# Altium footprint library chinook_lib_footprint_rotor.PcbLib: 25 footprints (part 1 of 2)
Each footprint in its own frame and in the unit in brackets; x right, y up, seen from the top. Pads: shape width x height; smd on the part's side, far side on the other; paste and mask are expansions set on the pad; w line width, h text height; cw(c..) or ccw(c..) is an arc to the next point about the centre after c.
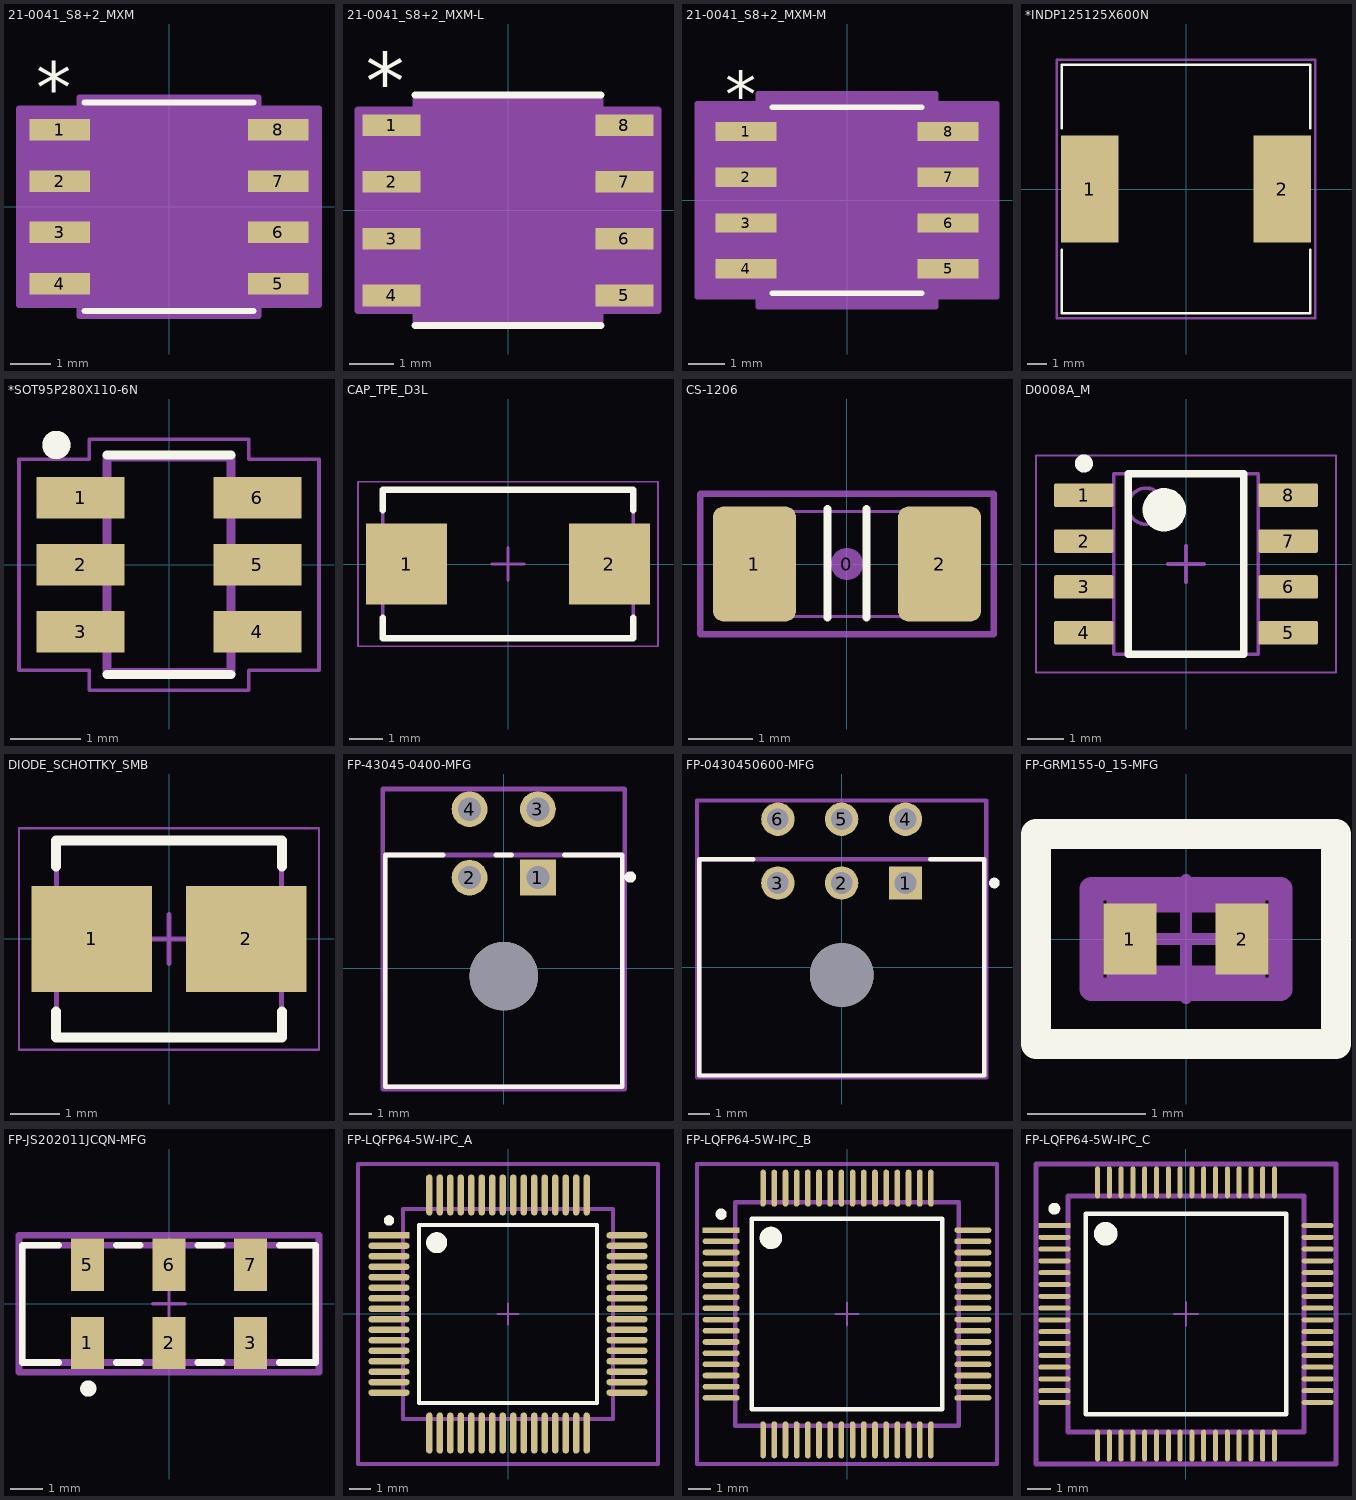
[diagram p0: the footprints below, top view; thin cyan lines are the x and y axes]

## 21-0041_S8+2_MXM [mil]
pads (8):
  rect 59.05x21 smd paste+0 mask+0: 1(-106.52,75) 2(-106.52,25) 3(-106.52,-25) 4(-106.52,-75) 5(106.52,-75) 6(106.52,-25) 7(106.52,25) 8(106.52,75)
Top Overlay:
  lines w6: -82,-101.5 82,-101.5 ; -82,101.5 82,101.5
  text "*" at -129.02,91 h50
Mechanical 13:
  lines w0: -12,96.5 ccw(c0,96.5) 12,96.5
  lines w1: -122.05,-84.5 -122.05,-65.5 -77,-65.5 -77,-84.5 -122.05,-84.5 ; -122.05,-34.5 -122.05,-15.5 -77,-15.5 -77,-34.5 -122.05,-34.5 ; -122.05,15.5 -122.05,34.5 -77,34.5 -77,15.5 -122.05,15.5 ; -122.05,65.5 -122.05,84.5 -77,84.5 -77,65.5 -122.05,65.5 ; -77,-96.5 77,-96.5 77,96.5 -77,96.5 -77,-96.5 ; 77,-84.5 77,-65.5 122.05,-65.5 122.05,-84.5 77,-84.5 ; 77,-34.5 77,-15.5 122.05,-15.5 122.05,-34.5 77,-34.5 ; 77,15.5 77,34.5 122.05,34.5 122.05,15.5 77,15.5 ; 77,65.5 77,84.5 122.05,84.5 122.05,65.5 77,65.5
  text "*" at -74.5,43.5 h50
Mechanical 15:
  region: -87,-95.5 -146.05,-95.5 -146.05,95.5 -87,95.5 -87,106.5 87,106.5 87,95.5 146.05,95.5 146.05,-95.5 87,-95.5 87,-106.5 -87,-106.5
  lines w6: -146.05,-95.5 -146.05,95.5 -87,95.5 -87,106.5 87,106.5 87,95.5 146.05,95.5 146.05,-95.5 87,-95.5 87,-106.5 -87,-106.5 -87,-95.5 -146.05,-95.5
3D body "21-0041_S8+2_MXM.step": height 69.09, standoff 0, extent -122.05,-96.5 122.05,96.5

## 21-0041_S8+2_MXM-L [mil]
pads (8):
  rect 51.05x19 smd paste+0 mask+0: 1(-102.52,75) 2(-102.52,25) 3(-102.52,-25) 4(-102.52,-75) 5(102.52,-75) 6(102.52,-25) 7(102.52,25) 8(102.52,75)
Top Overlay:
  lines w6: -82,-101.5 82,-101.5 ; -82,101.5 82,101.5
  text "*" at -125.02,89 h50
Mechanical 13:
  lines w0: -12,96.5 ccw(c0,96.5) 12,96.5
  lines w1: -122.05,-84.5 -122.05,-65.5 -77,-65.5 -77,-84.5 -122.05,-84.5 ; -122.05,-34.5 -122.05,-15.5 -77,-15.5 -77,-34.5 -122.05,-34.5 ; -122.05,15.5 -122.05,34.5 -77,34.5 -77,15.5 -122.05,15.5 ; -122.05,65.5 -122.05,84.5 -77,84.5 -77,65.5 -122.05,65.5 ; -77,-96.5 77,-96.5 77,96.5 -77,96.5 -77,-96.5 ; 77,-84.5 77,-65.5 122.05,-65.5 122.05,-84.5 77,-84.5 ; 77,-34.5 77,-15.5 122.05,-15.5 122.05,-34.5 77,-34.5 ; 77,15.5 77,34.5 122.05,34.5 122.05,15.5 77,15.5 ; 77,65.5 77,84.5 122.05,84.5 122.05,65.5 77,65.5
  text "*" at -74.5,43.5 h50
Mechanical 15:
  region: -81,-88.5 -132.05,-88.5 -132.05,88.5 -81,88.5 -81,100.5 81,100.5 81,88.5 132.05,88.5 132.05,-88.5 81,-88.5 81,-100.5 -81,-100.5
  lines w6: -132.05,-88.5 -132.05,88.5 -81,88.5 -81,100.5 81,100.5 81,88.5 132.05,88.5 132.05,-88.5 81,-88.5 81,-100.5 -81,-100.5 -81,-88.5 -132.05,-88.5
3D body "21-0041_S8+2_MXM.step": height 69.09, standoff 0, extent -122.05,-96.5 122.05,96.5

## 21-0041_S8+2_MXM-M [mil]
pads (8):
  rect 67.05x21 smd paste+0 mask+0: 1(-110.52,75) 2(-110.52,25) 3(-110.52,-25) 4(-110.52,-75) 5(110.52,-75) 6(110.52,-25) 7(110.52,25) 8(110.52,75)
Top Overlay:
  lines w6: -82,-101.5 82,-101.5 ; -82,101.5 82,101.5
  text "*" at -133.02,91 h50
Mechanical 13:
  lines w0: -12,96.5 ccw(c0,96.5) 12,96.5
  lines w1: -122.05,-84.5 -77,-84.5 -77,-65.5 -122.05,-65.5 -122.05,-84.5 ; -122.05,-34.5 -77,-34.5 -77,-15.5 -122.05,-15.5 -122.05,-34.5 ; -122.05,15.5 -77,15.5 -77,34.5 -122.05,34.5 -122.05,15.5 ; -122.05,65.5 -77,65.5 -77,84.5 -122.05,84.5 -122.05,65.5 ; -77,-96.5 -77,96.5 77,96.5 77,-96.5 -77,-96.5 ; 77,-84.5 122.05,-84.5 122.05,-65.5 77,-65.5 77,-84.5 ; 77,-34.5 122.05,-34.5 122.05,-15.5 77,-15.5 77,-34.5 ; 77,15.5 122.05,15.5 122.05,34.5 77,34.5 77,15.5 ; 77,65.5 122.05,65.5 122.05,84.5 77,84.5 77,65.5
  text "*" at -74.5,43.5 h50
Mechanical 15:
  region: -97,-105.5 -164.05,-105.5 -164.05,105.5 -97,105.5 -97,116.5 97,116.5 97,105.5 164.05,105.5 164.05,-105.5 97,-105.5 97,-116.5 -97,-116.5
  lines w6: -164.05,-105.5 -97,-105.5 -97,-116.5 97,-116.5 97,-105.5 164.05,-105.5 164.05,105.5 97,105.5 97,116.5 -97,116.5 -97,105.5 -164.05,105.5 -164.05,-105.5
3D body "21-0041_S8+2_MXM.step": height 69.09, standoff 0, extent -122.05,-96.5 122.05,96.5

## *INDP125125X600N [mm]
pads (2):
  rect 2.9x5.4 smd: 1(-4.85,0) 2(4.85,0)
Top Overlay:
  lines w0.127: -6.25,-3.05 -6.25,-6.25 6.25,-6.25 6.25,-3.05 ; -6.25,3.05 -6.25,6.25 6.25,6.25 6.25,3.05
Top Component Center:
  lines w0.127: -6.5,-6.5 -6.5,6.5 6.5,6.5 6.5,-6.5 -6.5,-6.5

## *SOT95P280X110-6N [mm]
pads (6):
  rect 1.25x0.59 smd: 1(-1.255,0.95) 2(-1.255,0) 3(-1.255,-0.95) 4(1.255,-0.95) 5(1.255,0) 6(1.255,0.95)
Top Overlay:
  circle w0.2: c-1.6,1.7 r0.1
  lines w0.127: -0.88,-1.559 0.88,-1.559 ; -0.88,1.559 0.88,1.559
Board:
  circle w0.2: c-1.6,1.7 r0.1
  circle w0.2: c-1.6,1.7 r0.1
  lines w0.127: -0.88,-1.53 0.88,-1.53 ; -0.88,-1.53 -0.88,1.53 ; -0.88,-1.53 0.88,-1.53 ; -0.88,-1.53 -0.88,1.53 ; -0.88,1.53 0.88,1.53 ; -0.88,1.53 0.88,1.53 ; 0.88,-1.53 0.88,1.53 ; 0.88,-1.53 0.88,1.53
Top Component Center:
  lines w0.05: -2.13,-1.5 -1.13,-1.5 -1.13,-1.78 1.13,-1.78 1.13,-1.5 2.13,-1.5 2.13,1.5 1.13,1.5 1.13,1.78 -1.13,1.78 -1.13,1.5 -2.13,1.5 -2.13,-1.5

## CAP_TPE_D3L [mm] "Molded Capacitor, 2-Leads, Body 7.30x4.30mm, IPC Medium Density"
height 2.5
pads (2):
  rect 2.45x2.45 smd: 1(-3.075,0) 2(3.075,0)
Top Overlay:
  lines w0.2: -3.8,-1.625 -3.8,-2.25 3.8,-2.25 3.8,-1.625 ; -3.8,1.625 -3.8,2.25 3.8,2.25 3.8,1.625
Mechanical 13:
  lines w0.1: -3.8,-2.25 -3.8,2.25 3.8,2.25 3.8,-2.25 -3.8,-2.25
Mechanical 15:
  lines w0.05: -4.55,-2.5 -4.55,2.5 4.55,2.5 4.55,-2.5 -4.55,-2.5
  lines w0.1: -0.5,0 0.5,0 ; 0,-0.5 0,0.5
3D body "CAPM7343X25N.step": height 2.5, standoff 0, extent -4.02,-2.25 4.02,2.25

## CS-1206 [mm]
pads (3):
  round 0.508 on Mech15: 0(0,0)
  rrect25% 1.3x1.8 smd: 1(-1.45,0) 2(1.45,0)
Top Overlay:
  lines w0.127: -0.307,-0.838 -0.307,0.864 ; 0.303,-0.838 0.303,0.864
Mechanical 13:
  lines w0.05: 1.025,-0.824 -1.025,-0.824 1.025,-0.824 ; -1.625,-0.825 -1.025,-0.825 -1.025,0.825 -1.625,0.825 -1.625,-0.825 ; -1.025,0.824 1.025,0.824 -1.025,0.824 ; 1.025,-0.825 1.025,0.825 1.625,0.825 1.625,-0.825 1.025,-0.825
Mechanical 15:
  lines w0.1: -2.3,-1.1 -2.3,1.1 2.3,1.1 2.3,-1.1 -2.3,-1.1
3D body "CS       - 1206.STEP": height 1, standoff 0, extent -1.577,-0.8 1.623,0.8

## D0008A_M [mm] "SOIC, 8-Leads, Body 5x4mm, Pitch 1.27mm, IPC Low Density"
height 1.75
pads (8):
  rrect15% 1.65x0.65 smd: 1(-2.825,1.905) 2(-2.825,0.635) 3(-2.825,-0.635) 4(-2.825,-1.905) 5(2.825,-1.905) 6(2.825,-0.635) 7(2.825,0.635) 8(2.825,1.905)
Top Overlay:
  circle w0.25: c-2.825,2.78 r0.125
  circle w0.6: c-0.6,1.5 r0.3
  lines w0.2: -1.6,-2.5 -1.6,2.5 1.6,2.5 1.6,-2.5 -1.6,-2.5
Mechanical 1:
  text ".Designator" at -1.397,-0.254 h0.6
Mechanical 13:
  circle w0.1: c-1.1,1.6 r0.5
  lines w0.1: -2,-2.5 -2,2.5 2,2.5 2,-2.5 -2,-2.5
Mechanical 15:
  lines w0.05: -4.15,-3 -4.15,3 4.15,3 4.15,-3 -4.15,-3
  lines w0.1: -0.5,0 0.5,0 ; 0,-0.5 0,0.5
3D body "SOIC-8akaD0008AakaM08A.stp": height 1.63, standoff 0, extent -3,-2.45 3,2.45

## DIODE_SCHOTTKY_SMB [mm] "Molded Capacitor, 2-Leads, Body 4.31x3.62mm, IPC Medium Density"
height 2.5
pads (2):
  rect 2.45x2.15 smd: 1(-1.575,0) 2(1.575,0)
Top Overlay:
  lines w0.2: -2.3,-1.475 -2.3,-2 2.3,-2 2.3,-1.475 ; -2.3,1.475 -2.3,2 2.3,2 2.3,1.475
Mechanical 13:
  lines w0.1: -2.285,-1.97 -2.285,1.97 2.285,1.97 2.285,-1.97 -2.285,-1.97
Mechanical 15:
  lines w0.05: -3.05,-2.25 -3.05,2.25 3.05,2.25 3.05,-2.25 -3.05,-2.25
  lines w0.1: -0.5,0 0.5,0 ; 0,-0.5 0,0.5
3D body "CAPM4336X25N.step": height 2.5, standoff 0, extent -2.505,-1.97 2.505,1.97

## FP-43045-0400-MFG [mm]
pads (5):
  rect 1.57x1.57 hole 1.02 paste-2539.97 mask+0: 1(1.5,3.965)
  round 1.57 hole 1.02 paste-2539.97 mask+0: 2(-1.5,3.965) 3(1.5,6.965) 4(-1.5,6.965)
  round 3 hole 3 unplated paste-2539.97 mask+0: ""(0,-0.355)
Top Overlay:
  circle w0.25: c5.55,3.99 r0.125
  lines w0.2: -2.66,4.955 -5.2,4.955 -5.2,-5.205 5.2,-5.205 5.2,4.955 2.66,4.955 ; -0.34,4.955 0.34,4.955
Top 3D Body:
  lines w0.2: -5.2,-5.205 -5.2,4.955 5.2,4.955 5.2,-5.205 -5.2,-5.205
Top Courtyard:
  lines w0.2: -5.3,-5.305 -5.3,7.85 5.3,7.85 5.3,-5.305 -5.3,-5.305
Top Assembly:
  lines w0.2: -5.3,-5.305 -5.3,7.85 5.3,7.85 5.3,-5.305 -5.3,-5.305
  text ".Designator" at 0,1.272 h1
Top Component Center:
  lines w0.1: -0.5,0 0.5,0 ; 0,-0.5 0,0.5
3D body "Conn_Molex_43045-0400_eec.STEP": height 0.25, standoff 0, extent -5.3,-5.305 5.3,7.85

## FP-0430450600-MFG [mm]
pads (7):
  rect 1.57x1.57 hole 1.02 paste-2539.97 mask+0: 1(3,3.965)
  round 1.57 hole 1.02 paste-2539.97 mask+0: 2(0,3.965) 3(-3,3.965) 4(3,6.965) 5(0,6.965) 6(-3,6.965)
  round 3 hole 3 unplated paste-2539.97 mask+0: ""(0,-0.355)
Top Overlay:
  circle w0.25: c7.175,3.965 r0.125
  lines w0.2: -4.16,5.08 -6.7,5.08 -6.7,-5.08 6.7,-5.08 6.7,5.08 4.16,5.08
Top 3D Body:
  lines w0.2: -6.7,-5.08 6.7,-5.08 6.7,5.08 -6.7,5.08 -6.7,-5.08
Top Courtyard:
  lines w0.2: -6.8,-5.18 6.8,-5.18 6.8,7.85 -6.8,7.85 -6.8,-5.18
Top Assembly:
  lines w0.2: -6.8,-5.18 6.8,-5.18 6.8,7.85 -6.8,7.85 -6.8,-5.18
  text ".Designator" at 0,1.522 h1
Top Component Center:
  lines w0.1: -0.5,0 0.5,0 ; 0,-0.5 0,0.5
3D body "Conn_Molex_0430450600_eec.STEP": height 0.25, standoff 0, extent -6.8,-5.18 6.8,7.85

## FP-GRM155-0_15-MFG [mm]
pads (2):
  rect 0.45x0.6 smd paste+0 mask+0: 1(-0.475,0) 2(0.475,0)
Top Overlay:
  lines w0.254: -1.27,-0.889 -1.27,0.889 0,0.889 1.27,0.889 1.27,-0.889 -1.27,-0.889
Top 3D Body:
  lines w0.2: -0.575,-0.325 -0.575,0.325 0.575,0.325 0.575,-0.325 -0.575,-0.325
Top Courtyard:
  lines w0.2: -0.8,-0.425 -0.8,0.425 0.8,0.425 0.8,-0.425 -0.8,-0.425
Top Assembly:
  lines w0.2: -0.8,-0.425 -0.8,0.425 0.8,0.425 0.8,-0.425 -0.8,-0.425
  text ".Designator" at 0,0.187 h1
Top Component Center:
  lines w0.1: -0.5,0 0.5,0 ; 0,-0.5 0,0.5
3D body "Cap_Murata_GRM155R61A475MEAAD_eec.STEP": height 0.25, standoff 0, extent -0.8,-0.425 0.8,0.425

## FP-JS202011JCQN-MFG [mm]
pads (6):
  rect 1x1.6 smd paste+0 mask+0: 1(-2.5,-1.2) 2(0,-1.2) 3(2.5,-1.2) 5(-2.5,1.2) 6(0,1.2) 7(2.5,1.2)
Top Overlay:
  circle w0.25: c-2.475,-2.6 r0.125
  lines w0.2: -3.375,-1.8 -4.5,-1.8 -4.5,1.8 -3.375,1.8 ; -1.625,-1.8 -0.875,-1.8 ; -1.625,1.8 -0.875,1.8 ; 0.875,-1.8 1.625,-1.8 ; 0.875,1.8 1.625,1.8 ; 3.375,-1.8 4.5,-1.8 4.5,1.8 3.375,1.8
Top 3D Body:
  lines w0.2: -4.5,-1.8 -4.5,1.8 4.5,1.8 4.5,-1.8 -4.5,-1.8
Top Courtyard:
  lines w0.2: -4.6,-2.1 -4.6,2.1 4.6,2.1 4.6,-2.1 -4.6,-2.1
Top Assembly:
  lines w0.2: -4.6,-2.1 -4.6,2.1 4.6,2.1 4.6,-2.1 -4.6,-2.1
  text ".Designator" at 0,0.187 h1
Top Component Center:
  lines w0.1: -0.5,0 0.5,0 ; 0,-0.5 0,0.5
3D body "Switch_C&K_Components_JS202011JCQN_eec.STEP": height 0.25, standoff 0, extent -4.6,-2.1 4.6,2.1

## FP-LQFP64-5W-IPC_A [mm]
pads (64):
  rect 1.955x0.312 smd paste+0 mask+0: 1(-5.675,3.75)
  rrect100% 1.955x0.312 smd paste+0 mask+0: 2(-5.675,3.25) 3(-5.675,2.75) 4(-5.675,2.25) 5(-5.675,1.75) 6(-5.675,1.25) 7(-5.675,0.75) 8(-5.675,0.25) 9(-5.675,-0.25) 10(-5.675,-0.75) 11(-5.675,-1.25) 12(-5.675,-1.75) 13(-5.675,-2.25) 14(-5.675,-2.75) 15(-5.675,-3.25) 16(-5.675,-3.75) 33(5.675,-3.75) 34(5.675,-3.25) 35(5.675,-2.75) 36(5.675,-2.25) 37(5.675,-1.75) 38(5.675,-1.25) 39(5.675,-0.75) 40(5.675,-0.25) 41(5.675,0.25) 42(5.675,0.75) 43(5.675,1.25) 44(5.675,1.75) 45(5.675,2.25) 46(5.675,2.75) 47(5.675,3.25) 48(5.675,3.75)
  rrect100% 0.312x1.955 smd paste+0 mask+0: 17(-3.75,-5.675) 18(-3.25,-5.675) 19(-2.75,-5.675) 20(-2.25,-5.675) 21(-1.75,-5.675) 22(-1.25,-5.675) 23(-0.75,-5.675) 24(-0.25,-5.675) 25(0.25,-5.675) 26(0.75,-5.675) 27(1.25,-5.675) 28(1.75,-5.675) 29(2.25,-5.675) 30(2.75,-5.675) 31(3.25,-5.675) 32(3.75,-5.675) 49(3.75,5.675) 50(3.25,5.675) 51(2.75,5.675) 52(2.25,5.675) 53(1.75,5.675) 54(1.25,5.675) 55(0.75,5.675) 56(0.25,5.675) 57(-0.25,5.675) 58(-0.75,5.675) 59(-1.25,5.675) 60(-1.75,5.675) 61(-2.25,5.675) 62(-2.75,5.675) 63(-3.25,5.675) 64(-3.75,5.675)
Top Overlay:
  circle w0.25: c-5.675,4.46 r0.125
  circle w0.5: c-3.4,3.4 r0.25
  lines w0.2: -4.25,-4.25 4.25,-4.25 4.25,4.25 -4.25,4.25 -4.25,-4.25
Top 3D Body:
  lines w0.2: -5,-5 5,-5 5,5 -5,5 -5,-5
Top Courtyard:
  lines w0.2: -7.153,-7.153 7.153,-7.153 7.153,7.153 -7.153,7.153 -7.153,-7.153
Top Assembly:
  lines w0.2: -7.153,-7.153 7.153,-7.153 7.153,7.153 -7.153,7.153 -7.153,-7.153
  text ".Designator" at 0,-0.001 h1
Top Component Center:
  lines w0.1: -0.5,0 0.5,0 ; 0,-0.5 0,0.5

## FP-LQFP64-5W-IPC_B [mm]
pads (64):
  rect 1.655x0.252 smd paste+0 mask+0: 1(-5.625,3.75)
  rrect100% 1.655x0.252 smd paste+0 mask+0: 2(-5.625,3.25) 3(-5.625,2.75) 4(-5.625,2.25) 5(-5.625,1.75) 6(-5.625,1.25) 7(-5.625,0.75) 8(-5.625,0.25) 9(-5.625,-0.25) 10(-5.625,-0.75) 11(-5.625,-1.25) 12(-5.625,-1.75) 13(-5.625,-2.25) 14(-5.625,-2.75) 15(-5.625,-3.25) 16(-5.625,-3.75) 33(5.625,-3.75) 34(5.625,-3.25) 35(5.625,-2.75) 36(5.625,-2.25) 37(5.625,-1.75) 38(5.625,-1.25) 39(5.625,-0.75) 40(5.625,-0.25) 41(5.625,0.25) 42(5.625,0.75) 43(5.625,1.25) 44(5.625,1.75) 45(5.625,2.25) 46(5.625,2.75) 47(5.625,3.25) 48(5.625,3.75)
  rrect100% 0.252x1.655 smd paste+0 mask+0: 17(-3.75,-5.625) 18(-3.25,-5.625) 19(-2.75,-5.625) 20(-2.25,-5.625) 21(-1.75,-5.625) 22(-1.25,-5.625) 23(-0.75,-5.625) 24(-0.25,-5.625) 25(0.25,-5.625) 26(0.75,-5.625) 27(1.25,-5.625) 28(1.75,-5.625) 29(2.25,-5.625) 30(2.75,-5.625) 31(3.25,-5.625) 32(3.75,-5.625) 49(3.75,5.625) 50(3.25,5.625) 51(2.75,5.625) 52(2.25,5.625) 53(1.75,5.625) 54(1.25,5.625) 55(0.75,5.625) 56(0.25,5.625) 57(-0.25,5.625) 58(-0.75,5.625) 59(-1.25,5.625) 60(-1.75,5.625) 61(-2.25,5.625) 62(-2.75,5.625) 63(-3.25,5.625) 64(-3.75,5.625)
Top Overlay:
  circle w0.5: c-3.4,3.4 r0.25
  circle w0.25: c-5.625,4.46 r0.125
  lines w0.2: -4.25,-4.25 -4.25,4.25 4.25,4.25 4.25,-4.25 -4.25,-4.25
Top 3D Body:
  lines w0.2: -5,-5 -5,5 5,5 5,-5 -5,-5
Top Courtyard:
  lines w0.2: -6.703,-6.703 -6.703,6.703 6.703,6.703 6.703,-6.703 -6.703,-6.703
Top Assembly:
  lines w0.2: -6.703,-6.703 -6.703,6.703 6.703,6.703 6.703,-6.703 -6.703,-6.703
  text ".Designator" at 0,-0.001 h1
Top Component Center:
  lines w0.1: -0.5,0 0.5,0 ; 0,-0.5 0,0.5

## FP-LQFP64-5W-IPC_C [mm]
pads (64):
  rect 1.355x0.212 smd paste+0 mask+0: 1(-5.575,3.75)
  rrect100% 1.355x0.212 smd paste+0 mask+0: 2(-5.575,3.25) 3(-5.575,2.75) 4(-5.575,2.25) 5(-5.575,1.75) 6(-5.575,1.25) 7(-5.575,0.75) 8(-5.575,0.25) 9(-5.575,-0.25) 10(-5.575,-0.75) 11(-5.575,-1.25) 12(-5.575,-1.75) 13(-5.575,-2.25) 14(-5.575,-2.75) 15(-5.575,-3.25) 16(-5.575,-3.75) 33(5.575,-3.75) 34(5.575,-3.25) 35(5.575,-2.75) 36(5.575,-2.25) 37(5.575,-1.75) 38(5.575,-1.25) 39(5.575,-0.75) 40(5.575,-0.25) 41(5.575,0.25) 42(5.575,0.75) 43(5.575,1.25) 44(5.575,1.75) 45(5.575,2.25) 46(5.575,2.75) 47(5.575,3.25) 48(5.575,3.75)
  rrect100% 0.212x1.355 smd paste+0 mask+0: 17(-3.75,-5.575) 18(-3.25,-5.575) 19(-2.75,-5.575) 20(-2.25,-5.575) 21(-1.75,-5.575) 22(-1.25,-5.575) 23(-0.75,-5.575) 24(-0.25,-5.575) 25(0.25,-5.575) 26(0.75,-5.575) 27(1.25,-5.575) 28(1.75,-5.575) 29(2.25,-5.575) 30(2.75,-5.575) 31(3.25,-5.575) 32(3.75,-5.575) 49(3.75,5.575) 50(3.25,5.575) 51(2.75,5.575) 52(2.25,5.575) 53(1.75,5.575) 54(1.25,5.575) 55(0.75,5.575) 56(0.25,5.575) 57(-0.25,5.575) 58(-0.75,5.575) 59(-1.25,5.575) 60(-1.75,5.575) 61(-2.25,5.575) 62(-2.75,5.575) 63(-3.25,5.575) 64(-3.75,5.575)
Top Overlay:
  circle w0.5: c-3.4,3.4 r0.25
  circle w0.25: c-5.575,4.46 r0.125
  lines w0.2: -4.25,-4.25 -4.25,4.25 4.25,4.25 4.25,-4.25 -4.25,-4.25
Top 3D Body:
  lines w0.2: -5,-5 -5,5 5,5 5,-5 -5,-5
Top Courtyard:
  lines w0.2: -6.353,-6.353 -6.353,6.353 6.353,6.353 6.353,-6.353 -6.353,-6.353
Top Assembly:
  lines w0.2: -6.353,-6.353 -6.353,6.353 6.353,6.353 6.353,-6.353 -6.353,-6.353
  text ".Designator" at 0,-0.001 h1
Top Component Center:
  lines w0.1: -0.5,0 0.5,0 ; 0,-0.5 0,0.5